# EAGLE library part MCP47*6 (library Volks73-MicrochipTechnology)
Digital-to-Analog Converter 8-/10-/12-Bit Voltage Output Digital-to-Analog Converter (DAC) with EEPROM and I22™ Interface Documentation Datasheet <http://ww1.microchip.com/downloads/en/DeviceDoc/22272C.pdf> General Description The MCP4706/4716/4726 are single channel 8-bit, 10-bit, and 12-bit buffered voltage output Digital-toAnalog Converters (DAC) with nonvolatile memory and an I2C serial interface. This family will also be referred to as MCP47X6. The VREF pin or the device VDD can be selected as the DAC’s reference voltage. When VDD is selected, VDD is connected internally to the DAC reference circuit. When the VREF pin is used, the user can select the output buffer’s gain to 1 or 2. When the gain is 2, the VREF pin voltage should be limited to a maximum of VDD/2. The DAC register value and Configuration bits can be programmed to nonvolatile memory (EEPROM). The nonvolatile memory holds the DAC register and Configuration bit values when the device is powered off. A device Reset (such as a Power-on Reset) latches these stored values into the volatile memory Power-Down modes enable system current reduction when the DAC output voltage is not required. The VOUT pin can be configured to present a low, medium, or high resistance load. These devices have a two-wire I2C™ compatible serial interface for standard (100 kHz), fast (400 kHz), or High-Speed (3.4 MHz) mode. These devices are available in small 6-pin SOT-23 and DFN 2x2 mm packages. Features Output Voltage Resolutions: 12-bit: MCP4726 10-bit: MCP4716 8-bit: MCP4706 Rail-to-Rail Output Fast Settling Time of 6 µs (typical) DAC Voltage Reference Options: VDD VREF Pin Output Gain Options: Unity (1x) 2x, only when VREF pin is used as voltage source Nonvolatile Memory (EEPROM): Auto Recall of Saved DAC register setting Auto Recall of Saved Device Configuration (Voltage Reference, Gain, Power-Down) Power-Down modes: Disconnects output buffer Selection of VOUT pull-down resistors (640 kΩ, 125 kΩ, or 1 kΩ) Low-Power Consumption: Normal Operation: 210 µA typical Power-Down Operation: 60 nA typical (PD1:PD0 = 11) Single-Supply Operation: 2.7V to 5.5V I2C™ Interface: Eight Available Addresses Standard (100 kbps), Fast (400 kbps), and High-Speed (3.4 Mbps) modes Small 6-lead SOT-23 and DFN (2x2) Packages Extended Temperature Range: -40°C to +125°C Applications Set Point or Offset Trimming Sensor Calibration Low-Power Portable Instrumentation PC Peripherals Data Acquisition Systems Motor Control
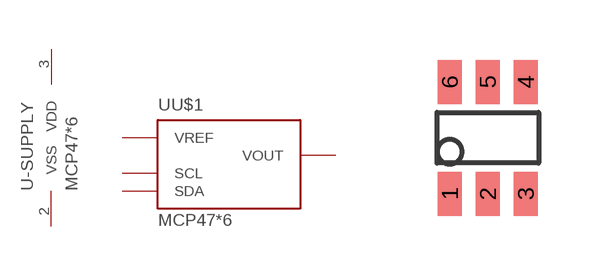
[diagram p0: symbol with the pads of SOT-23-6; footprint SOT-23-6]

Designator prefix U; gates U$1=47X6 -SUPPLY=SUPPLY

## MCP4716 (DATA_INTERFACE: EEPROM, I2C, Serial; DESCRIPTION: IC DAC 10BIT NV EEP I2C SOT-23-6; DOCUMENTATION_LINK: <a href="http://ww1.microchip.com/downloads/en/DeviceDoc/22272C.pdf">Datasheet</a>; DOCUMENTATION_URL: http://ww1.microchip.com/downloads/en/DeviceDoc/22272C.pdf; MANUFACTURER: Microchip Technology; MOUNTING_TYPE: Surface Mount; NUMBER_OF_BITS: 10; NUMBER_OF_CONVERTERS: 1; NUMBER_OF_OUTPUTS_AND_TYPE: 1 Voltage, Unipolar; OPERATING_TEMPERATURE: -40C ~ 125C; PACKAGE: SOT-23-6; PART_NUMBER: MCP4716A0T-E/CH; SETTLING_TIME: 6us; SUPPLIER_DEVICE_PACKAGE: SOT-23-6; SUPPLIER_ITEM_INFO: http://www.digikey.com/product-detail/en/MCP4716A0T-E%2FCH/MCP4716A0T-E%2FCHCT-ND/2684987; SUPPLIER_ITEM_LINK: <a href="http://www.digikey.com/product-detail/en/MCP4716A0T-E%2FCH/MCP4716A0T-E%2FCHCT-ND/2684987">Details</a>; SUPPLIER_ITEM_NUMBER: MCP4716A0T-E/CHCT-ND; SUPPLIER_ITEM_URL: http://www.digikey.com/product-detail/en/MCP4716A0T-E%2FCH/MCP4716A0T-E%2FCHCT-ND/2684987; SUPPLIER_LINK: <a href="http://www.digikey.com">Home Page</a>; SUPPLIER_NAME: Digi-Key; SUPPLIER_URL: http://www.digikey.com; VOLTAGE_SUPPLY_SOURCE: Single Supply), MCP4726 (DATA_INTERFACE: EEPROM, I2C, Serial; DESCRIPTION: IC DAC 12BIT NV EEP I2C SOT-23-6; DOCUMENTATION_LINK: <a href="http://ww1.microchip.com/downloads/en/DeviceDoc/22272C.pdf">Datasheet</a>; DOCUMENTATION_URL: http://ww1.microchip.com/downloads/en/DeviceDoc/22272C.pdf; MANUFACTURER: Microchip Technology; MOUNTING_TYPE: Surface Mount; NUMBER_OF_BITS: 12; NUMBER_OF_CONVERTERS: 1; NUMBER_OF_OUTPUTS_AND_TYPE: 1 Voltage, Unipolar; OPERATING_TEMPERATURE: -40C ~ 125C; PACKAGE: SOT-23-6; PART_NUMBER: MCP4726A0T-E/CH; SETTLING_TIME: 6us; SUPPLIER_DEVICE_PACKAGE: SOT-23-6; SUPPLIER_ITEM_INFO: http://www.digikey.com/product-detail/en/MCP4726A0T-E%2FCH/MCP4726A0T-E%2FCHCT-ND/2713266?WT.z_cid=ref_octopart_dkc_buynow&site=us; SUPPLIER_ITEM_LINK: <a href="http://www.digikey.com/product-detail/en/MCP4726A0T-E%2FCH/MCP4726A0T-E%2FCHCT-ND/2713266?WT.z_cid=ref_octopart_dkc_buynow&site=us">Details</a>; SUPPLIER_ITEM_NUMBER: MCP4726A0T-E/CHCT-ND; SUPPLIER_ITEM_URL: http://www.digikey.com/product-detail/en/MCP4726A0T-E%2FCH/MCP4726A0T-E%2FCHCT-ND/2713266?WT.z_cid=ref_octopart_dkc_buynow&site=us; SUPPLIER_LINK: <a href="http://www.digikey.com">Home Page</a>; SUPPLIER_NAME: Digi-Key; SUPPLIER_URL: http://www.digikey.com; VOLTAGE_SUPPLY_SOURCE: Single Supply)  [SOT-23-6]
1  U$1:VOUT  out
2  -SUPPLY:VSS  pwr
3  -SUPPLY:VDD  pwr
4  U$1:SDA
5  U$1:SCL
6  U$1:VREF  in

## Footprint SOT-23-6 (pad centres in mm)
Small Outline Transistor (SOT) 23 Series 6-Pin
smd 0.6 x 1.1: 1 -0.95,-1.4; 2 0,-1.4; 3 0.95,-1.4; 4 0.95,1.4; 5 0,1.4; 6 -0.95,1.4